# Altium footprint library SparkFun-Displays.PCBLIB: 26 footprints (part 2 of 2)
Each footprint in its own frame and in the unit in brackets; x right, y up, seen from the top. Pads: shape width x height; smd on the part's side, far side on the other; paste and mask are expansions set on the pad; w line width, h text height; cw(c..) or ccw(c..) is an arc to the next point about the centre after c.
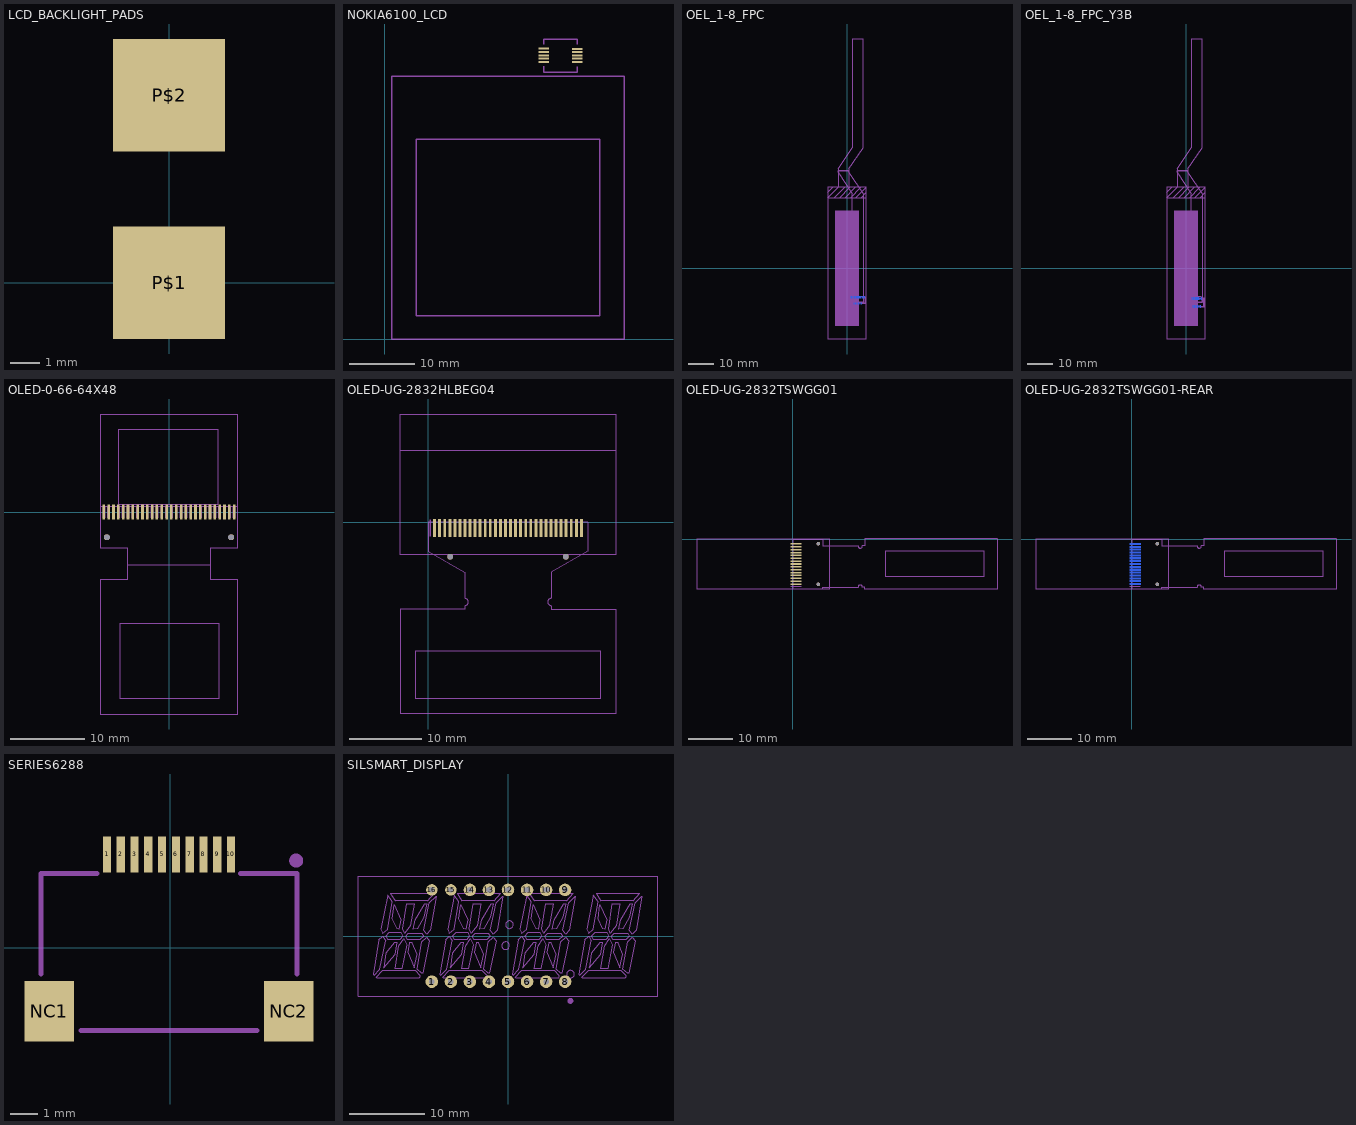
[diagram p1: the footprints below, top view; thin cyan lines are the x and y axes]

## LCD_BACKLIGHT_PADS [mil]
pads (2):
  rect 150x150 smd: P$1(0,0) P$2(0,250)

## NOKIA6100_LCD [mil]
pads (10):
  rect 62.99x11.81 smd: 1(954.94,1744.53) 2(954.94,1724.84) 3(954.94,1705.16) 4(954.94,1685.47) 5(954.94,1665.79) 6(1157.06,1665.47) 7(1157.06,1685.16) 8(1157.06,1704.84) 9(1157.06,1724.53) 10(1157.06,1744.21)
tPlace:
  lines w5: 1140,1200 1150,1200
  lines w8: 954.72,1603.15 954.72,1638.19 ; 955,1603 1155,1603 ; 955,1803 1155,1803 ; 955.12,1771.65 955.12,1802.76 ; 1155.12,1771.65 1155.12,1802.36 ; 1155.51,1603.15 1155.51,1637.4 ; 40,0 40,1580 1440,1580 1440,0 40,0 ; 190,140 190,1200 1150,1200 1290,1200 1290,140 190,140

## OEL_1-8_FPC [mm]
pads (15):
  rect 0.25x0.72 smd far side: 1(6,-11.32) 3(5.4,-11.32) 5(4.8,-11.32) 7(4.2,-11.32) 9(3.6,-11.32) 11(3,-11.32) 13(2.4,-11.32)
  rect 0.25x0.52 smd far side: 2(5.7,-13.75) 4(5.1,-13.75) 6(4.5,-13.75) 8(3.9,-13.75) 10(3.3,-13.75) 12(2.7,-13.75)
  rect 0.3x0.85 smd far side: P$1(1.69,-11.385) P$2(6.71,-11.385)
tDocu:
  region: 4.5,22.548 -4.5,22.548 -4.5,-22.548 4.5,-22.548
  lines w0.025: -7.47,27.65 -7.47,-27.65 7.47,-27.65 7.47,27.65 ; -7.47,27.65 -7.47,29.65 ; -7.47,27.65 -4.91,27.65 ; -7.47,27.65 -3.48,31.64 ; -7.47,29.65 -7.47,31.64 -5.49,31.64 ; -7.47,29.65 -5.49,31.64 ; -5.49,31.64 -3.51,31.64 ; -4.91,27.65 -2.81,27.65 ; -4.91,27.65 -0.93,31.64 ; -3.51,31.64 -3.48,31.64 ; -3.51,31.64 -3.51,38.215 0.69,38.215 0.69,31.64 ; -3.48,31.64 -0.93,31.64 ; -2.81,27.65 -0.71,27.65 ; -2.81,27.65 1.17,31.64 ; -0.93,31.64 0.69,31.64 ; -0.71,27.65 1.39,27.65 ; -0.71,27.65 3.27,31.64 ; 0.69,31.64 1.17,31.64 ; 1.17,31.64 3.27,31.64 ; 1.39,27.65 3.49,27.65 ; 1.39,27.65 5.37,31.64 ; 3.27,31.64 5.37,31.64 ; 3.49,27.65 5.49,27.65 ; 3.49,27.65 7.47,31.64 ; 5.37,31.64 7.47,31.64 ; 5.49,27.65 7.47,27.65 ; 5.49,27.65 7.47,29.64 ; 7.47,27.65 7.47,29.64 ; 7.47,29.64 7.47,31.64
  text "Avoid Bending" at 0,30 h1.97
  text "Display Area" at 0,0 h1.97
bDocu:
  lines w0.025: -3.51,37.49 2.1,29.22 2.1,-13.21 6.3,-13.21 6.3,29.22 0.69,37.49 0.69,38.215 -3.51,38.215 -3.51,37.49 ; 1.425,-13.76 1.425,-11.06 6.975,-11.06 6.975,-13.76 1.425,-13.76
bPlace:
  lines w0.203: 1.325,-11.06 1.325,-13.86 2.395,-13.86 ; 6.005,-13.86 7.075,-13.86 7.075,-11.06
Reference:
  lines w0.025: -3.51,31.64 -3.51,38.94 2.1,47.21 2.1,89.64 6.3,89.64 6.3,47.21 0.69,38.94 0.69,31.64

## OEL_1-8_FPC_Y3B [mm]
pads (13):
  rect 0.23x1 smd far side: 1(6,-11.795) 2(5.7,-14.955) 3(5.4,-11.795) 4(5.1,-14.955) 5(4.8,-11.795) 6(4.5,-14.955) 7(4.2,-11.795) 8(3.9,-14.955) 9(3.6,-11.795) 10(3.3,-14.955) 11(3,-11.795) 12(2.7,-14.955) 13(2.4,-11.795)
tDocu:
  region: 4.5,22.548 -4.5,22.548 -4.5,-22.548 4.5,-22.548
  lines w0.025: -7.47,27.65 -7.47,-27.65 7.47,-27.65 7.47,27.65 ; -7.47,27.65 -7.47,29.65 ; -7.47,27.65 -4.91,27.65 ; -7.47,27.65 -3.48,31.64 ; -7.47,29.65 -7.47,31.64 -5.49,31.64 ; -7.47,29.65 -5.49,31.64 ; -5.49,31.64 -3.51,31.64 ; -4.91,27.65 -2.81,27.65 ; -4.91,27.65 -0.93,31.64 ; -3.51,31.64 -3.48,31.64 ; -3.51,31.64 -3.51,38.215 0.69,38.215 0.69,31.64 ; -3.48,31.64 -0.93,31.64 ; -2.81,27.65 -0.71,27.65 ; -2.81,27.65 1.17,31.64 ; -0.93,31.64 0.69,31.64 ; -0.71,27.65 1.39,27.65 ; -0.71,27.65 3.27,31.64 ; 0.69,31.64 1.17,31.64 ; 1.17,31.64 3.27,31.64 ; 1.39,27.65 3.49,27.65 ; 1.39,27.65 5.37,31.64 ; 3.27,31.64 5.37,31.64 ; 3.49,27.65 5.49,27.65 ; 3.49,27.65 7.47,31.64 ; 5.37,31.64 7.47,31.64 ; 5.49,27.65 7.47,27.65 ; 5.49,27.65 7.47,29.64 ; 7.47,27.65 7.47,29.64 ; 7.47,29.64 7.47,31.64
  text "Avoid Bending" at 0,30 h1.97
  text "Display Area" at 0,0 h1.97
bDocu:
  region: 2.35,-12.215 2.35,-11.815 2.45,-11.815 2.45,-12.215
  region: 2.65,-14.885 2.65,-14.585 2.75,-14.585 2.75,-14.885
  region: 3.25,-14.885 3.25,-14.585 3.35,-14.585 3.35,-14.885
  region: 3.85,-14.885 3.85,-14.585 3.95,-14.585 3.95,-14.885
  region: 4.45,-14.885 4.45,-14.585 4.55,-14.585 4.55,-14.885
  region: 5.05,-14.885 5.05,-14.585 5.15,-14.585 5.15,-14.885
  region: 5.65,-14.885 5.65,-14.585 5.75,-14.585 5.75,-14.885
  region: 2.95,-12.215 2.95,-11.815 3.05,-11.815 3.05,-12.215
  region: 3.55,-12.215 3.55,-11.815 3.65,-11.815 3.65,-12.215
  region: 4.15,-12.215 4.15,-11.815 4.25,-11.815 4.25,-12.215
  region: 4.75,-12.215 4.75,-11.815 4.85,-11.815 4.85,-12.215
  region: 5.35,-12.215 5.35,-11.815 5.45,-11.815 5.45,-12.215
  region: 5.95,-12.215 5.95,-11.815 6.05,-11.815 6.05,-12.215
  lines w0.003: 2.1,-11.875 6.3,-11.875 ; 2.1,-11.875 1.5,-11.875 1.5,-14.825 6.9,-14.825 6.9,-11.875 6.3,-11.875 ; 2.1,-11.875 2.1,-13.225 6.3,-13.225 6.3,-11.875
  lines w0.025: -3.51,37.49 2.1,29.22 2.1,-13.21 6.3,-13.21 6.3,29.22 0.69,37.49 0.69,38.215 -3.51,38.215 -3.51,37.49
  text "FPC Depth" at 4.2,-12.95 h0.22
bPlace:
  lines w0.203: 2.1,-11.675 1.3,-11.675 1.3,-15.025 2.4,-15.025 ; 2.531,-10.892 5.881,-10.892 ; 6,-15.025 7.1,-15.025 7.1,-11.675 6.3,-11.675
Reference:
  lines w0.025: -3.51,31.64 -3.51,38.94 2.1,47.21 2.1,89.64 6.3,89.64 6.3,47.21 0.69,38.94 0.69,31.64

## OLED-0-66-64X48 [mm]
pads (30):
  rect 0.35x2 smd: 1(-8.775,0) 2(-8.125,0) 3(-7.475,0) 4(-6.825,0) 5(-6.175,0) 6(-5.525,0) 7(-4.875,0) 8(-4.225,0) 9(-3.575,0) 10(-2.925,0) 11(-2.275,0) 12(-1.625,0) 13(-0.975,0) 14(-0.325,0) 15(0.325,0) 16(0.975,0) 17(1.625,0) 18(2.275,0) 19(2.925,0) 20(3.575,0) 21(4.225,0) 22(4.875,0) 23(5.525,0) 24(6.175,0) 25(6.825,0) 26(7.475,0) 27(8.125,0) 28(8.775,0)
  round 0.8 hole 0.8 unplated: MH1(8.375,-3.4) MH2(-8.375,-3.4)
tDocu:
  region: 8.935,0.7 8.935,-0.8 8.615,-0.8 8.615,0.7
  region: 8.285,0.7 8.285,-0.8 7.965,-0.8 7.965,0.7
  region: 7.635,0.7 7.635,-0.8 7.315,-0.8 7.315,0.7
  region: 6.985,0.7 6.985,-0.8 6.665,-0.8 6.665,0.7
  region: 6.335,0.7 6.335,-0.8 6.015,-0.8 6.015,0.7
  region: 5.685,0.7 5.685,-0.8 5.365,-0.8 5.365,0.7
  region: 5.035,0.7 5.035,-0.8 4.715,-0.8 4.715,0.7
  region: 4.385,0.7 4.385,-0.8 4.065,-0.8 4.065,0.7
  region: 3.735,0.7 3.735,-0.8 3.415,-0.8 3.415,0.7
  region: 3.085,0.7 3.085,-0.8 2.765,-0.8 2.765,0.7
  region: 2.435,0.7 2.435,-0.8 2.115,-0.8 2.115,0.7
  region: 1.785,0.7 1.785,-0.8 1.465,-0.8 1.465,0.7
  region: 1.135,0.7 1.135,-0.8 0.815,-0.8 0.815,0.7
  region: 0.485,0.7 0.485,-0.8 0.165,-0.8 0.165,0.7
  region: -0.165,0.7 -0.165,-0.8 -0.485,-0.8 -0.485,0.7
  region: -0.815,0.7 -0.815,-0.8 -1.135,-0.8 -1.135,0.7
  region: -1.465,0.7 -1.465,-0.8 -1.785,-0.8 -1.785,0.7
  region: -2.115,0.7 -2.115,-0.8 -2.435,-0.8 -2.435,0.7
  region: -2.765,0.7 -2.765,-0.8 -3.085,-0.8 -3.085,0.7
  region: -3.415,0.7 -3.415,-0.8 -3.735,-0.8 -3.735,0.7
  region: -4.065,0.7 -4.065,-0.8 -4.385,-0.8 -4.385,0.7
  region: -4.715,0.7 -4.715,-0.8 -5.035,-0.8 -5.035,0.7
  region: -5.365,0.7 -5.365,-0.8 -5.685,-0.8 -5.685,0.7
  region: -6.015,0.7 -6.015,-0.8 -6.335,-0.8 -6.335,0.7
  region: -6.665,0.7 -6.665,-0.8 -6.985,-0.8 -6.985,0.7
  region: -7.315,0.7 -7.315,-0.8 -7.635,-0.8 -7.635,0.7
  region: -7.965,0.7 -7.965,-0.8 -8.285,-0.8 -8.285,0.7
  region: -8.615,0.7 -8.615,-0.8 -8.935,-0.8 -8.935,0.7
  lines w0.127: 9.23,13.2 9.225,13.2 ; 9.225,13.2 -9.275,13.2 -9.275,-4.8 -5.65,-4.8 -5.65,-7.1 5.65,-7.1 5.65,-4.8 9.225,-4.8 9.225,13.2 ; -6.805,1.04 -6.805,11.1 6.615,11.1 6.615,1.04 -6.805,1.04
  text "Active Area 0.66\"" at -0.095,7.289 h0.69
  text "64 x 48 Pixels" at -0.095,6.07 h0.69
  text "(Facing Up)" at -0.095,4.851 h0.69
bDocu:
  lines w0.127: -6.665,-25.1 -6.665,-15.04 6.755,-15.04 6.755,-25.1 -6.665,-25.1
  text "Active Area 0.66\"" at 0.045,-18.851 h0.69
  text "64 x 48 Pixels" at 0.045,-20.07 h0.69
  text "(Facing Bottom)" at 0.045,-21.289 h0.69
Reference:
  lines w0.127: -9.275,-4.8 -9.275,0.7 9.225,0.7 9.225,-4.8 5.65,-4.8 5.65,-9.1 9.23,-9.1 9.23,-27.2 -9.23,-27.2 -9.23,-9.1 -5.65,-9.1 -5.65,-4.8 -9.275,-4.8

## OLED-UG-2832HLBEG04 [mil]
pads (32):
  rect 15.75x98.43 smd paste+0: 1(33.46,-29.53) 2(61.02,-29.53) 3(88.58,-29.53) 4(116.14,-29.53) 5(143.7,-29.53) 6(171.26,-29.53) 7(198.82,-29.53) 8(226.38,-29.53) 9(253.94,-29.53) 10(281.5,-29.53) 11(309.06,-29.53) 12(336.61,-29.53) 13(364.17,-29.53) 14(391.73,-29.53) 15(419.29,-29.53) 16(446.85,-29.53) 17(474.41,-29.53) 18(501.97,-29.53) 19(529.53,-29.53) 20(557.09,-29.53) 21(584.65,-29.53) 22(612.2,-29.53) 23(639.76,-29.53) 24(667.32,-29.53) 25(694.88,-29.53) 26(722.44,-29.53) 27(750,-29.53) 28(777.56,-29.53) 29(805.12,-29.53) 30(832.68,-29.53)
  round 31.5 hole 31.5 unplated: MH1(748.03,-187.01) MH2(118.11,-187.01)
Top Paste:
  region: 27.56,-76.77 27.56,17.72 39.37,17.72 39.37,-76.77
  region: 55.12,-76.77 55.12,17.72 66.93,17.72 66.93,-76.77
  region: 82.68,-76.77 82.68,17.72 94.49,17.72 94.49,-76.77
  region: 110.24,-76.77 110.24,17.72 122.05,17.72 122.05,-76.77
  region: 137.8,-76.77 137.8,17.72 149.61,17.72 149.61,-76.77
  region: 165.35,-76.77 165.35,17.72 177.17,17.72 177.17,-76.77
  region: 192.91,-76.77 192.91,17.72 204.72,17.72 204.72,-76.77
  region: 220.47,-76.77 220.47,17.72 232.28,17.72 232.28,-76.77
  region: 248.03,-76.77 248.03,17.72 259.84,17.72 259.84,-76.77
  region: 275.59,-76.77 275.59,17.72 287.4,17.72 287.4,-76.77
  region: 303.15,-76.77 303.15,17.72 314.96,17.72 314.96,-76.77
  region: 330.71,-76.77 330.71,17.72 342.52,17.72 342.52,-76.77
  region: 358.27,-76.77 358.27,17.72 370.08,17.72 370.08,-76.77
  region: 385.83,-76.77 385.83,17.72 397.64,17.72 397.64,-76.77
  region: 413.39,-76.77 413.39,17.72 425.2,17.72 425.2,-76.77
  region: 440.94,-76.77 440.94,17.72 452.76,17.72 452.76,-76.77
  region: 468.5,-76.77 468.5,17.72 480.32,17.72 480.32,-76.77
  region: 496.06,-76.77 496.06,17.72 507.87,17.72 507.87,-76.77
  region: 523.62,-76.77 523.62,17.72 535.43,17.72 535.43,-76.77
  region: 551.18,-76.77 551.18,17.72 562.99,17.72 562.99,-76.77
  region: 578.74,-76.77 578.74,17.72 590.55,17.72 590.55,-76.77
  region: 606.3,-76.77 606.3,17.72 618.11,17.72 618.11,-76.77
  region: 633.86,-76.77 633.86,17.72 645.67,17.72 645.67,-76.77
  region: 661.42,-76.77 661.42,17.72 673.23,17.72 673.23,-76.77
  region: 688.98,-76.77 688.98,17.72 700.79,17.72 700.79,-76.77
  region: 716.54,-76.77 716.54,17.72 728.35,17.72 728.35,-76.77
  region: 744.09,-76.77 744.09,17.72 755.91,17.72 755.91,-76.77
  region: 771.65,-76.77 771.65,17.72 783.46,17.72 783.46,-76.77
  region: 799.21,-76.77 799.21,17.72 811.02,17.72 811.02,-76.77
  region: 826.77,-76.77 826.77,17.72 838.58,17.72 838.58,-76.77
tPlace:
  region: 12.5,-75 12.5,15.63 6.25,15.63 6.25,-75
Document:
  lines w5: -153.54,393.7 -153.54,-177.17 1019.69,-177.17 1019.69,393.7 ; -153.54,393.7 1019.69,393.7 ; -153.54,393.7 -153.54,590.55 1019.69,590.55 1019.69,393.7
Reference:
  lines w5: -153.54,-1043.31 1019.69,-1043.31 1019.69,-472.44 669.29,-472.44 669.29,-452.76 cw(c669.29,-433.07) 649.61,-433.07 cw(c669.29,-433.07) 669.29,-413.39 669.29,-271.65 866.14,-157.48 866.14,0 0,0 0,-157.48 196.85,-271.65 196.85,-413.39 cw(c196.85,-433.07) 216.54,-433.07 cw(c196.85,-433.07) 196.85,-452.76 196.85,-472.44 -153.54,-472.44 -153.54,-1043.31 ; -70.87,-956.69 -70.87,-702.76 937.01,-702.76 937.01,-956.69 -70.87,-956.69
  text "Active Area" at 433.07,-778.77 h49.6
  text "128 x 32 Pixels" at 433.07,-826.77 h49.6
  text "(Face down)" at 433.07,-874.77 h49.6
  text "(image top)" at 433.07,-999.77 h49.6

## OLED-UG-2832TSWGG01 [mm]
pads (17):
  rect 2.5x0.35 smd paste+0: 1(0.75,-10.175) 2(0.75,-9.525) 3(0.75,-8.875) 4(0.75,-8.225) 5(0.75,-7.575) 6(0.75,-6.925) 7(0.75,-6.275) 8(0.75,-5.625) 9(0.75,-4.975) 10(0.75,-4.325) 11(0.75,-3.675) 12(0.75,-3.025) 13(0.75,-2.375) 14(0.75,-1.725) 15(0.75,-1.075)
  round 0.8 hole 0.8 unplated: MH1(5.8,-1) MH2(5.8,-10.25)
Top Paste:
  region: -0.475,-1.225 -0.475,-0.925 1.625,-0.925 1.625,-1.225
  region: -0.475,-1.875 -0.475,-1.575 1.625,-1.575 1.625,-1.875
  region: -0.475,-2.525 -0.475,-2.225 1.625,-2.225 1.625,-2.525
  region: -0.475,-3.175 -0.475,-2.875 1.625,-2.875 1.625,-3.175
  region: -0.475,-3.825 -0.475,-3.525 1.625,-3.525 1.625,-3.825
  region: -0.475,-4.475 -0.475,-4.175 1.625,-4.175 1.625,-4.475
  region: -0.475,-5.125 -0.475,-4.825 1.625,-4.825 1.625,-5.125
  region: -0.475,-5.775 -0.475,-5.475 1.625,-5.475 1.625,-5.775
  region: -0.475,-6.425 -0.475,-6.125 1.625,-6.125 1.625,-6.425
  region: -0.475,-7.075 -0.475,-6.775 1.625,-6.775 1.625,-7.075
  region: -0.475,-7.725 -0.475,-7.425 1.625,-7.425 1.625,-7.725
  region: -0.475,-8.375 -0.475,-8.075 1.625,-8.075 1.625,-8.375
  region: -0.475,-9.025 -0.475,-8.725 1.625,-8.725 1.625,-9.025
  region: -0.475,-9.675 -0.475,-9.375 1.625,-9.375 1.625,-9.675
  region: -0.475,-10.325 -0.475,-10.025 1.625,-10.025 1.625,-10.325
tPlace:
  region: 1.905,-10.636 -0.397,-10.636 -0.397,-10.795 1.905,-10.795
Document:
  lines w0.127: -21.7,-11.35 8.3,-11.35 8.3,0.1 -21.7,0.1 -21.7,-11.35
Reference:
  lines w0.127: 0,-11.25 0,0 6.8,0 6.8,-1.45 14.8,-1.45 14.8,-1.55 ccw(c15.3,-1.55) 15.3,-2.05 ccw(c15.3,-1.55) 15.8,-1.55 15.8,-1.45 16.3,-1.45 16.3,0.1 46.3,0.1 46.3,-11.35 16.3,-11.35 16.3,-10.9 15.8,-10.9 ccw(c15.3,-10.9) 15.3,-10.4 ccw(c15.3,-10.9) 14.8,-10.9 6.75,-10.9 6.75,-11.25 0,-11.25 ; 21,-8.37 21,-2.77 43.4,-2.77 43.4,-8.37 21,-8.37
  text "Active Area" at 32,-4.281 h1.26
  text "128 x 32 Pixels" at 32,-5.5 h1.26
  text "(Face down)" at 32,-6.719 h1.26
  text "(image top)" at 32,-1 h1.26

## OLED-UG-2832TSWGG01-REAR [mm]
pads (17):
  rect 2.5x0.35 smd far side paste+0: 1(0.75,-10.175) 2(0.75,-9.525) 3(0.75,-8.875) 4(0.75,-8.225) 5(0.75,-7.575) 6(0.75,-6.925) 7(0.75,-6.275) 8(0.75,-5.625) 9(0.75,-4.975) 10(0.75,-4.325) 11(0.75,-3.675) 12(0.75,-3.025) 13(0.75,-2.375) 14(0.75,-1.725) 15(0.75,-1.075)
  round 0.8 hole 0.8 unplated: MH1(5.8,-1) MH2(5.8,-10.25)
Bottom Paste:
  region: -0.475,-1.225 -0.475,-0.925 1.625,-0.925 1.625,-1.225
  region: -0.475,-1.875 -0.475,-1.575 1.625,-1.575 1.625,-1.875
  region: -0.475,-2.525 -0.475,-2.225 1.625,-2.225 1.625,-2.525
  region: -0.475,-3.175 -0.475,-2.875 1.625,-2.875 1.625,-3.175
  region: -0.475,-3.825 -0.475,-3.525 1.625,-3.525 1.625,-3.825
  region: -0.475,-4.475 -0.475,-4.175 1.625,-4.175 1.625,-4.475
  region: -0.475,-5.125 -0.475,-4.825 1.625,-4.825 1.625,-5.125
  region: -0.475,-5.775 -0.475,-5.475 1.625,-5.475 1.625,-5.775
  region: -0.475,-6.425 -0.475,-6.125 1.625,-6.125 1.625,-6.425
  region: -0.475,-7.075 -0.475,-6.775 1.625,-6.775 1.625,-7.075
  region: -0.475,-7.725 -0.475,-7.425 1.625,-7.425 1.625,-7.725
  region: -0.475,-8.375 -0.475,-8.075 1.625,-8.075 1.625,-8.375
  region: -0.475,-9.025 -0.475,-8.725 1.625,-8.725 1.625,-9.025
  region: -0.475,-9.675 -0.475,-9.375 1.625,-9.375 1.625,-9.675
  region: -0.475,-10.325 -0.475,-10.025 1.625,-10.025 1.625,-10.325
bPlace:
  region: 1.905,-10.636 -0.397,-10.636 -0.397,-10.795 1.905,-10.795
Document:
  lines w0.127: -21.7,-11.35 8.3,-11.35 8.3,0.1 -21.7,0.1 -21.7,-11.35
Reference:
  lines w0.127: 0,-11.25 0,0 6.8,0 6.8,-1.45 14.8,-1.45 14.8,-1.55 ccw(c15.3,-1.55) 15.3,-2.05 ccw(c15.3,-1.55) 15.8,-1.55 15.8,-1.45 16.3,-1.45 16.3,0.1 46.3,0.1 46.3,-11.35 16.3,-11.35 16.3,-10.9 15.8,-10.9 ccw(c15.3,-10.9) 15.3,-10.4 ccw(c15.3,-10.9) 14.8,-10.9 6.75,-10.9 6.75,-11.25 0,-11.25 ; 21,-8.37 21,-2.77 43.4,-2.77 43.4,-8.37 21,-8.37
  text "Active Area" at 32,-4.281 h1.26
  text "128 x 32 Pixels" at 32,-5.5 h1.26
  text "(Face down)" at 32,-6.719 h1.26
  text "(image top)" at 32,-1 h1.26

## SERIES6288 [mil]
pads (12):
  rect 11.81x51.18 smd: 1(-90.55,133.86) 2(-70.87,133.86) 3(-51.18,133.86) 4(-31.5,133.86) 5(-11.81,133.86) 6(7.87,133.86) 7(27.56,133.86) 8(47.24,133.86) 9(66.93,133.86) 10(86.61,133.86)
  rect 70.87x86.61 smd: NC1(-173.23,-90.55) NC2(169.29,-90.55)
tPlace:
  circle w10: c180,125 r5
  lines w7: -185.04,-37.24 -185.04,106.3 -105,106.3 ; -127.8,-118.11 123.86,-118.11 ; 100,106.3 181.1,106.3 181.1,-37.24

## SILSMART_DISPLAY [mil]
pads (16):
  round 66 hole 29.53: 1(-400.71,-239.84) 2(-300.71,-239.84) 3(-200.71,-239.84) 4(-100.71,-239.84) 5(-0.71,-239.84) 6(99.29,-239.84) 7(199.29,-239.84) 8(299.29,-239.84) 9(299.29,242.05) 10(199.29,242.05) 11(99.29,242.05) 12(-0.71,242.05) 13(-100.71,242.05) 14(-200.71,242.05)
  round 60 hole 29.53: 15(-300.71,242.05) 16(-400.71,242.05)
tPlace:
  drawing of 312 lines, arcs and shapes, not listed